# EAGLE library part ?7B-ZR (library con-jst-custom)
ZH CONNECTOR 1.5 mm, 4 pin 1 row Source: http://www.jst.com .. eZH.pdf
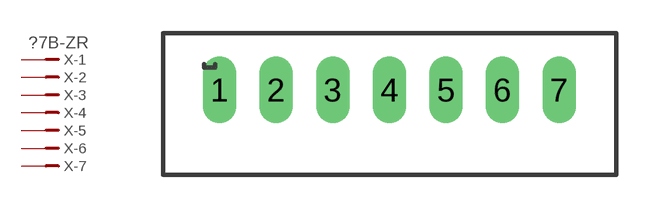
[diagram p1: symbol with the pads of B7B-ZR2.5; footprint B7B-ZR2.5]

Designator prefix X; gates -1=PM-VN -2=PM-N -3=PM-N -4=PM-N -5=PM-N -6=PM-N -7=PM-N

## 7B-ZR  [B7B-ZR2.5]
1  -1:1  pas
2  -2:1  pas
3  -3:1  pas
4  -4:1  pas
5  -5:1  pas
6  -6:1  pas
7  -7:1  pas

## Footprint B7B-ZR2.5 (pad centres in mm)
ZH CONNECTOR Top entry type, 1.5 mm, 4 pin 1 row Source: http://www.jst.com .. eZH.pdf
drill 1 pad 1.422 long: 1 -7.635,0; 2 -5.093,0; 3 -2.553,0; 4 -0.013,0; 5 2.527,0; 6 5.067,0; 7 7.607,0